# EAGLE library part USB4110-GF-A (library connector)
CONN USB 2.0 TYPE-C R/A SMT
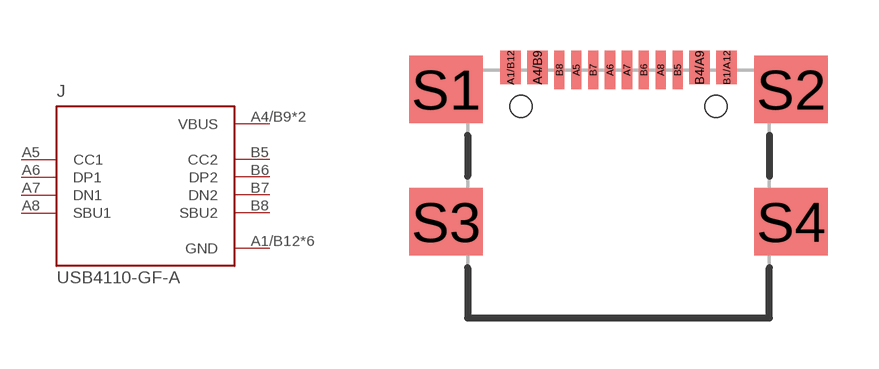
[diagram p7: symbol with the pads of GCT_USB4110-GF-A; footprint GCT_USB4110-GF-A]

Designator prefix J

## USB4110-GF-A (DIGIKEY: 073-USB4110-GF-A-1-ND; MANUFACTURER: GCT; MPN: USB4110-GF-A)  [GCT_USB4110-GF-A]
A1/B12  GND  pwr
A4/B9  VBUS  pwr
A5  CC1
A6  DP1
A7  DN1
A8  SBU1
B1/A12  GND  pwr
B4/A9  VBUS  pwr
B5  CC2
B6  DP2
B7  DN2
B8  SBU2
S1  GND  pwr
S2  GND  pwr
S3  GND  pwr
S4  GND  pwr

## Footprint GCT_USB4110-GF-A (pad centres in mm)
smd 0.6 x 1: A1/B12 -3.2,1.15; A4/B9 -2.4,1.15; B1/A12 3.2,1.15; B4/A9 2.4,1.15
smd 0.3 x 1.15: A5 -1.25,1.075; A6 -0.25,1.075; A7 0.25,1.075; A8 1.25,1.075; B5 1.75,1.075; B6 0.75,1.075; B7 -0.75,1.075; B8 -1.75,1.075
smd 2.18 x 2: S1 -5.11,0.5; S2 5.11,0.5; S3 -5.11,-3.43; S4 5.11,-3.43
hole 0.65 at -2.89,0
hole 0.65 at 2.89,0